# Altium schematic symbol library 外置AD.SchLib: 1 symbol
Pins are listed as number, name and electrical type; pins without a type are passive.

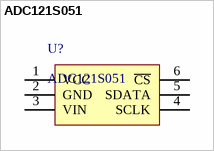
[diagram p0: symbol ADC121S051]

## ADC121S051
designator U?
TI 单通道 SAR 50K-200Ksps 12bitADC
footprint SOT23-6L (SOT23, 6-Leads, Body 2.9x1.6mm, Pitch 0.95mm, Lead Span 2.7mm, IPC High Density)
pins: 1 VCC, 2 GND, 3 VIN, 4 SCLK, 5 SDATA, 6 ~{CS}